# EAGLE library part LCD-8PIN (library lcd)
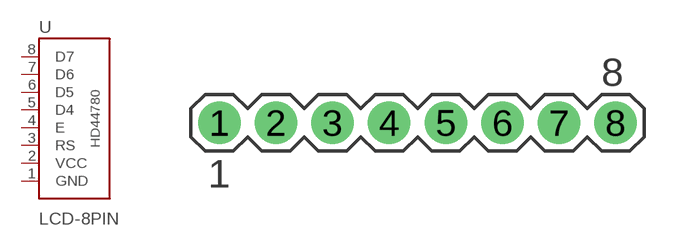
[diagram p3: symbol with the pads of 1X8; footprint 1X8]

Designator prefix -

## LCD-8PIN  [1X8]
1  GND  pas
2  VCC  pas
3  RS  pas
4  E  pas
5  D4  pas
6  D5  pas
7  D6  pas
8  D7  pas

## Footprint 1X8 (pad centres in mm)
drill 0.813 pad 1.905: 1 -8.89,0; 2 -6.35,0; 3 -3.81,0; 4 -1.27,0; 5 1.27,0; 6 3.81,0; 7 6.35,0; 8 8.89,0